# Altium footprint library PcbLib1.PcbLib: 4 footprints
Each footprint in its own frame and in the unit in brackets; x right, y up, seen from the top. Pads: shape width x height; smd on the part's side, far side on the other; paste and mask are expansions set on the pad; w line width, h text height; cw(c..) or ccw(c..) is an arc to the next point about the centre after c.
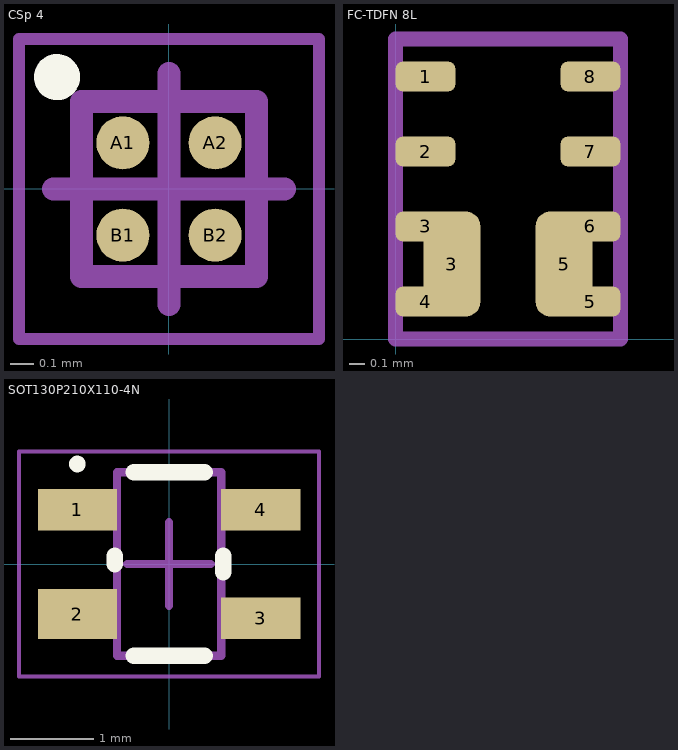
[diagram p0: the footprints below, top view; thin cyan lines are the x and y axes]

## CSp 4 [mm]
height 0.66
pads (4):
  round 0.23 smd: A1(-0.2,0.2) A2(0.2,0.2) B1(-0.2,-0.2) B2(0.2,-0.2)
Top Overlay:
  circle w0.1: c-0.485,0.485 r0.05
Mechanical 13:
  lines w0.1: -0.38,-0.38 -0.38,0.38 0.38,0.38 0.38,-0.38 -0.38,-0.38
Mechanical 15:
  lines w0.05: -0.65,-0.65 -0.65,0.65 0.65,0.65 0.65,-0.65 -0.65,-0.65
  lines w0.1: -0.5,0 0.5,0 ; 0,-0.5 0,0.5
3D body: height 0.66, standoff 0.17, extent -0.38,-0.38 0.38,0.38

## FC-TDFN 8L [mm]
pads (10):
  rrect50% 0.4x0.2 smd mask+0.102: 1(0.2,1.75) 2(0.2,1.25) 3(0.2,0.75) 4(0.2,0.25) 5(1.3,0.25) 6(1.3,0.75) 7(1.3,1.25) 8(1.3,1.75)
  rrect50% 0.38x0.7 smd mask+0.102: 3(0.375,0.5) 5(1.125,0.5)
Mechanical 1:
  lines w0.1: 0,0 1.5,0 1.5,2 0,2 0,0
3D body: height 3, standoff 0.01, extent 0,0 1.5,2

## SC-82AB [mm]

## SOT130P210X110-4N [mm] "SOT343, 4-Leads, Body 2.00x2.10mm, Pitch 1.30mm, IPC Medium Density"
height 1.1
pads (4):
  rect 0.95x0.5 smd: 1(-1.1,0.65) 3(1.1,-0.65) 4(1.1,0.65)
  rect 0.95x0.6 smd: 2(-1.1,-0.6)
Top Overlay:
  circle w0.1: c-1.1,1.2 r0.05
  lines w0.2: -0.65,0 -0.65,0.1 ; -0.425,-1.1 0.425,-1.1 ; -0.425,1.1 0.425,1.1 ; 0.65,-0.1 0.65,0.1
Mechanical 13:
  lines w0.1: -0.625,-1.1 0.625,-1.1 0.625,1.1 -0.625,1.1 -0.625,-1.1
Mechanical 15:
  lines w0.05: -1.8,-1.35 1.8,-1.35 1.8,1.35 -1.8,1.35 -1.8,-1.35
  lines w0.1: -0.5,0 0.5,0 ; 0,-0.5 0,0.5
3D body: height 1.1, standoff 0.1, extent -0.625,-1.1 0.625,1.1